# Altium footprint library Components - 25.02.24 - 14.56.PcbLib: 3 footprints
Each footprint in its own frame and in the unit in brackets; x right, y up, seen from the top. Pads: shape width x height; smd on the part's side, far side on the other; paste and mask are expansions set on the pad; w line width, h text height; cw(c..) or ccw(c..) is an arc to the next point about the centre after c.
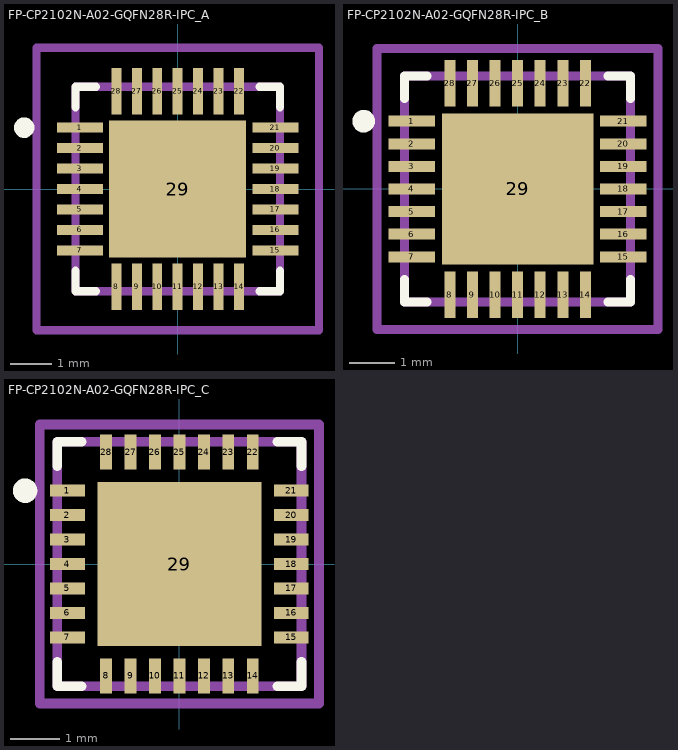
[diagram p0: the footprints below, top view; thin cyan lines are the x and y axes]

## FP-CP2102N-A02-GQFN28R-IPC_A [mm]
pads (29):
  rect 1.131x0.242 smd paste+0: 1(-2.391,1.5) 2(-2.391,1) 3(-2.391,0.5) 4(-2.391,0) 5(-2.391,-0.5) 6(-2.391,-1) 7(-2.391,-1.5) 15(2.391,-1.5) 16(2.391,-1) 17(2.391,-0.5) 18(2.391,0) 19(2.391,0.5) 20(2.391,1) 21(2.391,1.5)
  rect 0.242x1.131 smd paste+0: 8(-1.5,-2.391) 9(-1,-2.391) 10(-0.5,-2.391) 11(0,-2.391) 12(0.5,-2.391) 13(1,-2.391) 14(1.5,-2.391) 22(1.5,2.391) 23(1,2.391) 24(0.5,2.391) 25(0,2.391) 26(-0.5,2.391) 27(-1,2.391) 28(-1.5,2.391)
  rect 3.35x3.35 smd paste-1000: 29(0,0)
Top Overlay:
  circle w0.25: c-3.756,1.5 r0.125
  lines w0.2: -2.5,-2 -2.5,-2.5 -2,-2.5 ; -2.5,2 -2.5,2.5 -2,2.5 ; 2,-2.5 2.5,-2.5 2.5,-2 ; 2,2.5 2.5,2.5 2.5,2
Top Paste:
  rectangle: -1.059,-1.059 1.059,1.059
Top Assembly:
  lines w0.2: -3.456,-3.456 3.456,-3.456 3.456,3.456 -3.456,3.456 -3.456,-3.456
  text ".Designator" at 0,0.188 h1
Top 3D Body:
  lines w0.2: -2.5,-2.5 2.5,-2.5 2.5,2.5 -2.5,2.5 -2.5,-2.5
Top Courtyard:
  lines w0.2: -3.456,-3.456 3.456,-3.456 3.456,3.456 -3.456,3.456 -3.456,-3.456
Top Component Center:
  lines w0.1: -0.5,0 0.5,0 ; 0,-0.5 0,0.5
3D body "IC_Silicon_Labs_CP2102N-A02-GQFN28R_eec.STEP": height 0.25, standoff 0, extent -3.456,-3.456 3.456,3.456

## FP-CP2102N-A02-GQFN28R-IPC_B [mm]
pads (29):
  rect 1.031x0.242 smd paste+0: 1(-2.341,1.5) 2(-2.341,1) 3(-2.341,0.5) 4(-2.341,0) 5(-2.341,-0.5) 6(-2.341,-1) 7(-2.341,-1.5) 15(2.341,-1.5) 16(2.341,-1) 17(2.341,-0.5) 18(2.341,0) 19(2.341,0.5) 20(2.341,1) 21(2.341,1.5)
  rect 0.242x1.031 smd paste+0: 8(-1.5,-2.341) 9(-1,-2.341) 10(-0.5,-2.341) 11(0,-2.341) 12(0.5,-2.341) 13(1,-2.341) 14(1.5,-2.341) 22(1.5,2.341) 23(1,2.341) 24(0.5,2.341) 25(0,2.341) 26(-0.5,2.341) 27(-1,2.341) 28(-1.5,2.341)
  rect 3.35x3.35 smd paste-1000: 29(0,0)
Top Overlay:
  circle w0.25: c-3.406,1.5 r0.125
  lines w0.2: -2.5,-2 -2.5,-2.5 -2,-2.5 ; -2.5,2 -2.5,2.5 -2,2.5 ; 2,-2.5 2.5,-2.5 2.5,-2 ; 2,2.5 2.5,2.5 2.5,2
Top Paste:
  rectangle: -1.059,-1.059 1.059,1.059
Top Assembly:
  lines w0.2: -3.106,-3.106 -3.106,3.106 3.106,3.106 3.106,-3.106 -3.106,-3.106
  text ".Designator" at 0,0.188 h1
Top 3D Body:
  lines w0.2: -2.5,-2.5 -2.5,2.5 2.5,2.5 2.5,-2.5 -2.5,-2.5
Top Courtyard:
  lines w0.2: -3.106,-3.106 -3.106,3.106 3.106,3.106 3.106,-3.106 -3.106,-3.106
Top Component Center:
  lines w0.1: -0.5,0 0.5,0 ; 0,-0.5 0,0.5
3D body "IC_Silicon_Labs_CP2102N-A02-GQFN28R_eec.STEP": height 0.25, standoff 0, extent -3.106,-3.106 3.106,3.106

## FP-CP2102N-A02-GQFN28R-IPC_C [mil]
pads (29):
  rect 28x9.55 smd: 1(-90.18,59.06) 2(-90.18,39.37) 3(-90.18,19.68) 4(-90.18,0) 5(-90.18,-19.68) 6(-90.18,-39.37) 7(-90.18,-59.06) 15(90.18,-59.06) 16(90.18,-39.37) 17(90.18,-19.68) 18(90.18,0) 19(90.18,19.68) 20(90.18,39.37) 21(90.18,59.06)
  rect 9.55x28 smd: 8(-59.06,-90.18) 9(-39.37,-90.18) 10(-19.68,-90.18) 11(0,-90.18) 12(19.68,-90.18) 13(39.37,-90.18) 14(59.06,-90.18) 22(59.06,90.18) 23(39.37,90.18) 24(19.68,90.18) 25(0,90.18) 26(-19.68,90.18) 27(-39.37,90.18) 28(-59.06,90.18)
  rect 131.89x131.89 smd paste-39370.1: 29(0,0)
Top Overlay:
  circle w9.84: c-124.25,59.06 r4.92
  lines w7.87: -98.43,-78.74 -98.43,-98.43 -78.74,-98.43 ; -98.43,78.74 -98.43,98.43 -78.74,98.43 ; 78.74,-98.43 98.43,-98.43 98.43,-78.74 ; 78.74,98.43 98.43,98.43 98.43,78.74
Top Paste:
  rectangle: -41.71,-41.71 41.71,41.71
Top Assembly:
  lines w7.87: -112.44,-112.44 -112.44,112.44 112.44,112.44 112.44,-112.44 -112.44,-112.44
  text ".Designator" at 0,7.39 h39.37
Top 3D Body:
  lines w7.87: -98.43,-98.43 -98.43,98.43 98.43,98.43 98.43,-98.43 -98.43,-98.43
Top Courtyard:
  lines w7.87: -112.44,-112.44 -112.44,112.44 112.44,112.44 112.44,-112.44 -112.44,-112.44
Top Component Center:
  lines w3.94: -19.68,0 19.68,0 ; 0,-19.68 0,19.68
3D body "IC_Silicon_Labs_CP2102N-A02-GQFN28R_eec.STEP": height 10, standoff 0, extent -112.44,-112.44 112.44,112.44